# Altium schematic symbol library DM9000AE.SchLib: 1 symbol
Pins are listed as number, name and electrical type; pins without a type are passive.

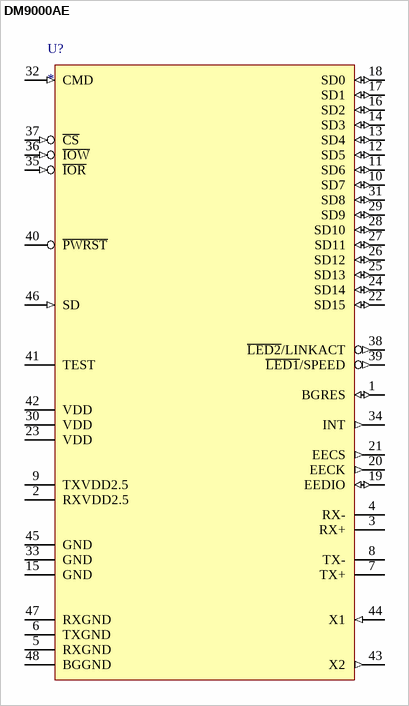
[diagram p0: symbol DM9000AE]

## DM9000AE
designator U?
pins: 1 BGRES (io), 2 RXVDD2.5 (power), 3 RX+, 4 RX-, 5 RXGND (power), 6 TXGND (power), 7 TX+, 8 TX-, 9 TXVDD2.5 (power), 10 SD7 (io), 11 SD6 (io), 12 SD5 (io), 13 SD4 (io), 14 SD3 (io), 15 GND (power), 16 SD2 (io), 17 SD1 (io), 18 SD0 (io), 19 EEDIO (io), 20 EECK (out), 21 EECS (out), 22 SD15 (io), 23 VDD (power), 24 SD14 (io), 25 SD13 (io), 26 SD12 (io), 27 SD11 (io), 28 SD10 (io), 29 SD9 (io), 30 VDD (power), 31 SD8 (io), 32 CMD (in), 33 GND (power), 34 INT (out), 35 ~{IOR} (in), 36 ~{IOW} (in), 37 ~{CS} (in), 38 ~{LED2}/LINKACT (out), 39 ~{LED1}/SPEED (out), 40 ~{PWRST}, 41 TEST, 42 VDD (power), 43 X2 (out), 44 X1 (in), 45 GND (power), 46 SD (in), 47 RXGND (power), 48 BGGND (power)